# Altium schematic symbol library SX1208.SchLib: 1 symbol
Pins are listed as number, name and electrical type; pins without a type are passive.

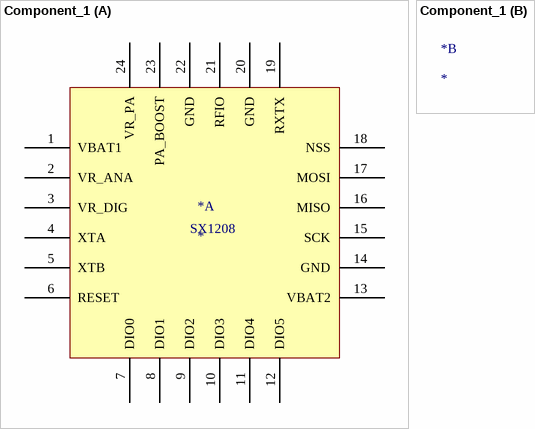
[diagram p0: symbol Component_1]

## Component_1
designator *
part A pins: 1 VBAT1, 2 VR_ANA, 3 VR_DIG, 4 XTA, 5 XTB, 6 RESET, 7 DIO0, 8 DIO1, 9 DIO2, 10 DIO3, 11 DIO4, 12 DIO5, 13 VBAT2, 14 GND, 15 SCK, 16 MISO, 17 MOSI, 18 NSS, 19 RXTX, 20 GND, 21 RFIO, 22 GND, 23 PA_BOOST, 24 VR_PA
part A text: SX1208